# EAGLE library part MCP2210 (library library)
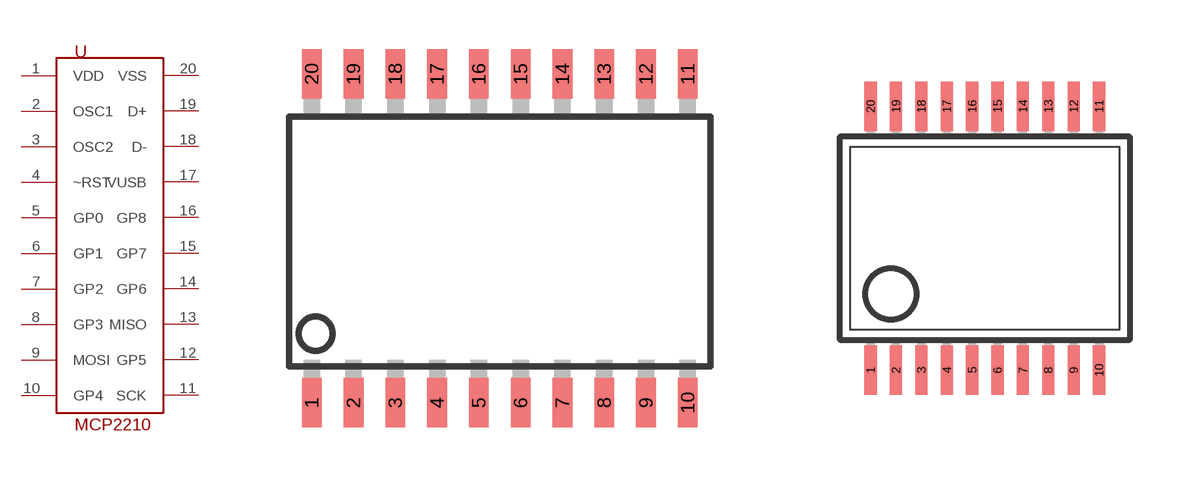
[diagram p0: symbol with the pads of SOIC20S; footprints SOIC20S, SSOP20]

Designator prefix U

## MCP2210SOIC20  [SOIC20S]
1  VDD  pwr
2  OSC1
3  OSC2
4  ~RST
5  GP0
6  GP1
7  GP2
8  GP3
9  MOSI
10  GP4
11  SCK
12  GP5
13  MISO
14  GP6
15  GP7
16  GP8
17  VUSB  pwr
18  D-
19  D+
20  VSS  pwr

## MCP2210SSOP  [SSOP20]
1  VDD  pwr
2  OSC1
3  OSC2
4  ~RST
5  GP0
6  GP1
7  GP2
8  GP3
9  MOSI
10  GP4
11  VSS  pwr
12  D+
13  D-
14  VUSB  pwr
15  GP8
16  GP7
17  GP6
18  MISO
19  GP5
20  SCK

## Footprint SOIC20S (pad centres in mm)
Wide Plastic Gull Wing Small Outline Package
smd 0.6 x 1.5: 1 -5.715,-5; 2 -4.445,-5; 3 -3.175,-5; 4 -1.905,-5; 5 -0.635,-5; 6 0.635,-5; 7 1.905,-5; 8 3.175,-5; 9 4.445,-5; 10 5.715,-5; 11 5.715,5; 12 4.445,5; 13 3.175,5; 14 1.905,5; 15 0.635,5; 16 -0.635,5; 17 -1.905,5; 18 -3.175,5; 19 -4.445,5; 20 -5.715,5

## Footprint SSOP20 (pad centres in mm)
Small Shrink Outline Package
smd 0.305 x 1.245: 1 -2.857,-3.302; 2 -2.222,-3.302; 3 -1.587,-3.302; 4 -0.952,-3.302; 5 -0.317,-3.302; 6 0.318,-3.302; 7 0.953,-3.302; 8 1.588,-3.302; 9 2.223,-3.302; 10 2.858,-3.302; 11 2.858,3.302; 12 2.223,3.302; 13 1.588,3.302; 14 0.953,3.302; 15 0.318,3.302; 16 -0.317,3.302; 17 -0.952,3.302; 18 -1.587,3.302; 19 -2.222,3.302; 20 -2.857,3.302